# Altium footprint library CAPAE660X800N.PcbLib: 2 footprints
Each footprint in its own frame and in the unit in brackets; x right, y up, seen from the top. Pads: shape width x height; smd on the part's side, far side on the other; paste and mask are expansions set on the pad; w line width, h text height; cw(c..) or ccw(c..) is an arc to the next point about the centre after c.
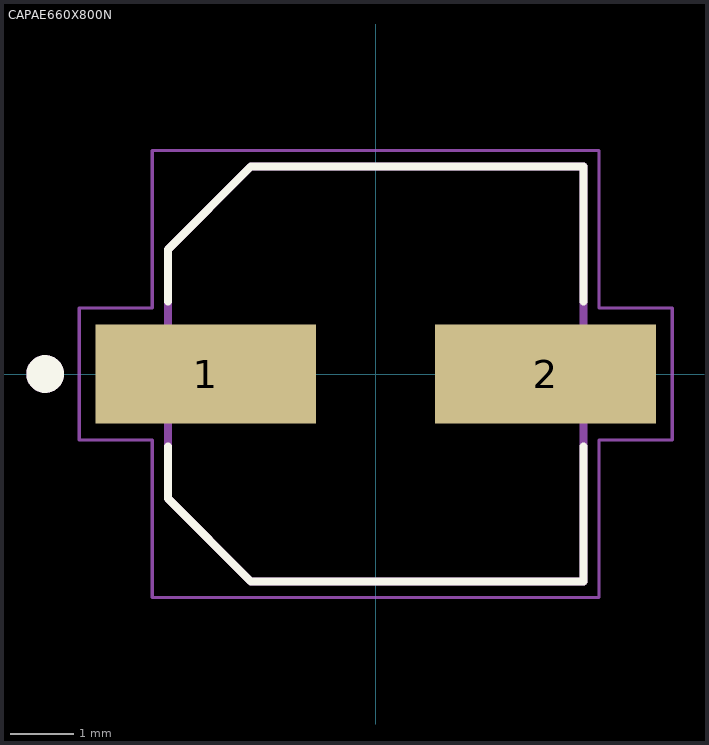
[diagram p0: the footprints below, top view; thin cyan lines are the x and y axes]

## CAPAE660X800N [mm]
pads (2):
  rect 3.51x1.58 smd: 1(-2.7,0) 2(2.7,0)
Top Overlay:
  circle w0.3: c-5.25,0 r0.15
  lines w0.127: -3.3,-1.15 -3.3,-1.98 -1.98,-3.3 3.3,-3.3 3.3,-1.15 ; -3.3,1.15 -3.3,1.98 -1.98,3.3 3.3,3.3 3.3,1.15
Mechanical 4:
  circle w0.3: c-5.25,0 r0.15
  circle w0.3: c-5.25,0 r0.15
  lines w0.127: -3.3,-1.98 -3.3,1.98 ; -3.3,-1.98 -1.98,-3.3 ; -3.3,-1.98 -3.3,1.98 ; -3.3,-1.98 -1.98,-3.3 ; -3.3,1.98 -1.98,3.3 ; -3.3,1.98 -1.98,3.3 ; -1.98,-3.3 3.3,-3.3 ; -1.98,-3.3 3.3,-3.3 ; -1.98,3.3 3.3,3.3 ; -1.98,3.3 3.3,3.3 ; 3.3,-3.3 3.3,3.3 ; 3.3,-3.3 3.3,3.3
Mechanical 16:
  lines w0.05: -4.71,-1.05 -3.55,-1.05 -3.55,-3.55 3.55,-3.55 3.55,-1.05 4.71,-1.05 4.71,1.05 3.55,1.05 3.55,3.55 -3.55,3.55 -3.55,1.05 -4.71,1.05 -4.71,-1.05
3D body "EEE-FTH101XAP--3DModel-STEP-56544.STEP": height 8.06, standoff 0.06, extent -3.9,-3.3 3.9,3.3

## PCBComponent_1 [mm]